# EAGLE library part 53398_14 (library Molex)
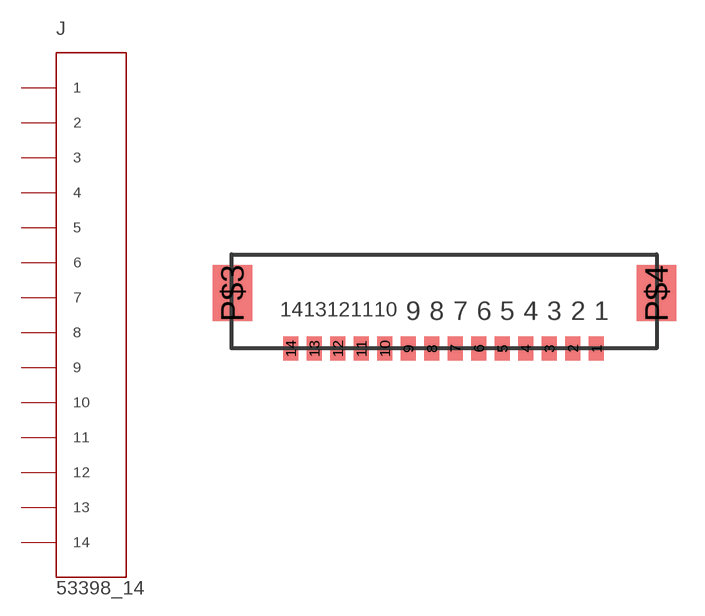
[diagram p3: symbol with the pads of 53398_14; footprint 53398_14]

Designator prefix J

## 53398_14  [53398_14]
1  1
2  2
3  3
4  4
5  5
6  6
7  7
8  8
9  9
10  10
11  11
12  12
13  13
14  14

## Footprint 53398_14 (pad centres in mm)
smd 0.8 x 1.3: 1 15.6,0; 2 14.35,0; 3 13.1,0; 4 11.85,0; 5 10.6,0; 6 9.35,0; 7 8.1,0; 8 6.85,0; 9 5.6,0; 10 4.35,0; 11 3.1,0; 12 1.85,0; 13 0.6,0; 14 -0.65,0
smd 2.1 x 3: P$3 -3.75,2.95; P$4 18.8,2.95